# Altium schematic symbol library 74LVC2G240.Schlib: 1 symbol
Pins are listed as number, name and electrical type; pins without a type are passive.

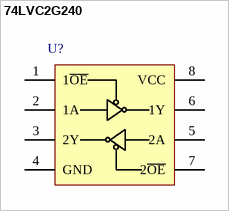
[diagram p0: symbol 74LVC2G240]

## 74LVC2G240
designator U?  (value not drawn)
Dual Inverting Tri-State Buffer
pins: 1 1~{OE}, 2 1A, 3 2Y, 4 GND, 5 2A, 6 1Y, 7 2~{OE}, 8 VCC